# EAGLE library part RX_DEVICE (library 433_TX_RX)
RX-D1, Common 433MHz RX chip. May be also used in small versions boards - MX-FS-03V.
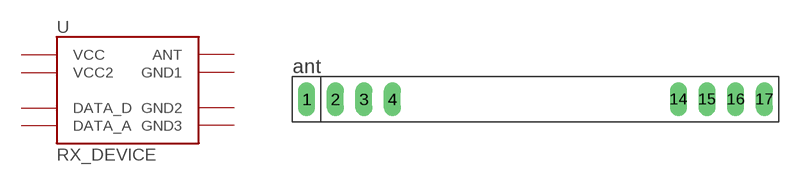
[diagram p0: symbol with the pads of RX; footprint RX]

Designator prefix -

## RX_DEVICE  [RX]
1  ANT  out
2  GND1  pas
3  GND2  pas
4  VCC  pwr
14  VCC2  pwr
15  DATA_A  out
16  DATA_D  out
17  GND3  pas

## Footprint RX (pad centres in mm)
drill 1.016 long: 1 -20.32,0; 2 -17.78,0; 3 -15.24,0; 4 -12.7,0; 14 12.7,0; 15 15.24,0; 16 17.78,0; 17 20.32,0